# Altium footprint library CFAG12864S.PcbLib: 1 footprints
Each footprint in its own frame and in the unit in brackets; x right, y up, seen from the top. Pads: shape width x height; smd on the part's side, far side on the other; paste and mask are expansions set on the pad; w line width, h text height; cw(c..) or ccw(c..) is an arc to the next point about the centre after c.
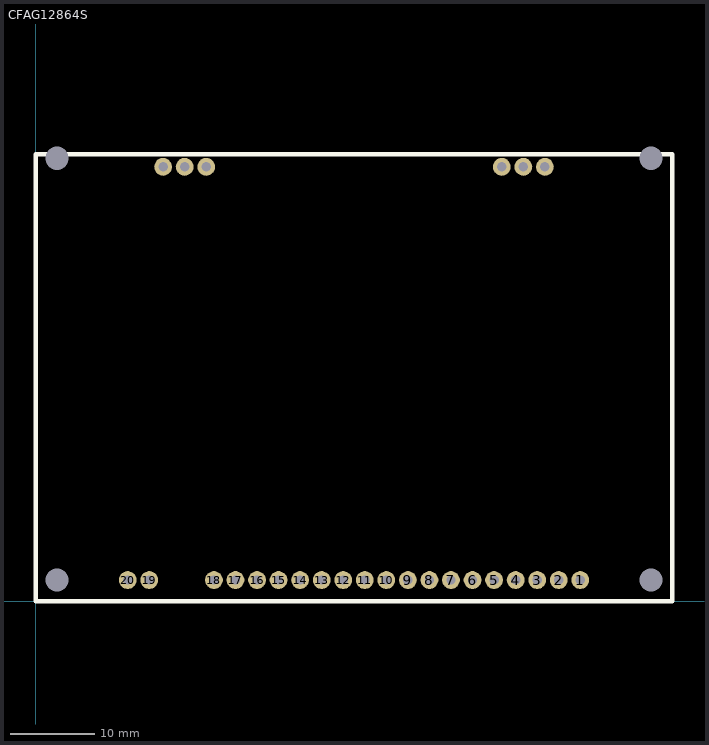
[diagram p0: the footprint, top view; thin cyan lines are the x and y axes]

## CFAG12864S [mm]
pads (30):
  round 2.1 hole 1.1: 1(64.17,2.5) 2(61.63,2.5) 3(59.09,2.5) 4(56.55,2.5) 5(54.01,2.5) 6(51.47,2.5) 7(48.93,2.5) 8(46.39,2.5) 9(43.85,2.5) 10(41.31,2.5) 11(38.77,2.5) 12(36.23,2.5) 13(33.69,2.5) 14(31.15,2.5) 15(28.61,2.5) 16(26.07,2.5) 17(23.53,2.5) 18(20.99,2.5) 19(13.37,2.5) 20(10.83,2.5) ""(15,51.2) ""(17.54,51.2) ""(20.08,51.2) ""(54.92,51.2) ""(57.46,51.2) ""(60,51.2)
  round 0 hole 2.75: 21(2.5,52.2) 22(72.5,52.2) 23(72.5,2.5) 24(2.5,2.5)
Top Overlay:
  lines w0.5: 0,0 0,52.7 75,52.7 75,0 0,0
3D body: height 7.37, standoff -3, extent 39,17 39,17
3D body "CFAG12864S-YYH-VT.STEP": height 8.9, standoff -5.18, extent 0,0 75,52.7